# Altium footprint library 常用晶振封装PCB.PcbLib: 14 footprints
Each footprint in its own frame and in the unit in brackets; x right, y up, seen from the top. Pads: shape width x height; smd on the part's side, far side on the other; paste and mask are expansions set on the pad; w line width, h text height; cw(c..) or ccw(c..) is an arc to the next point about the centre after c.
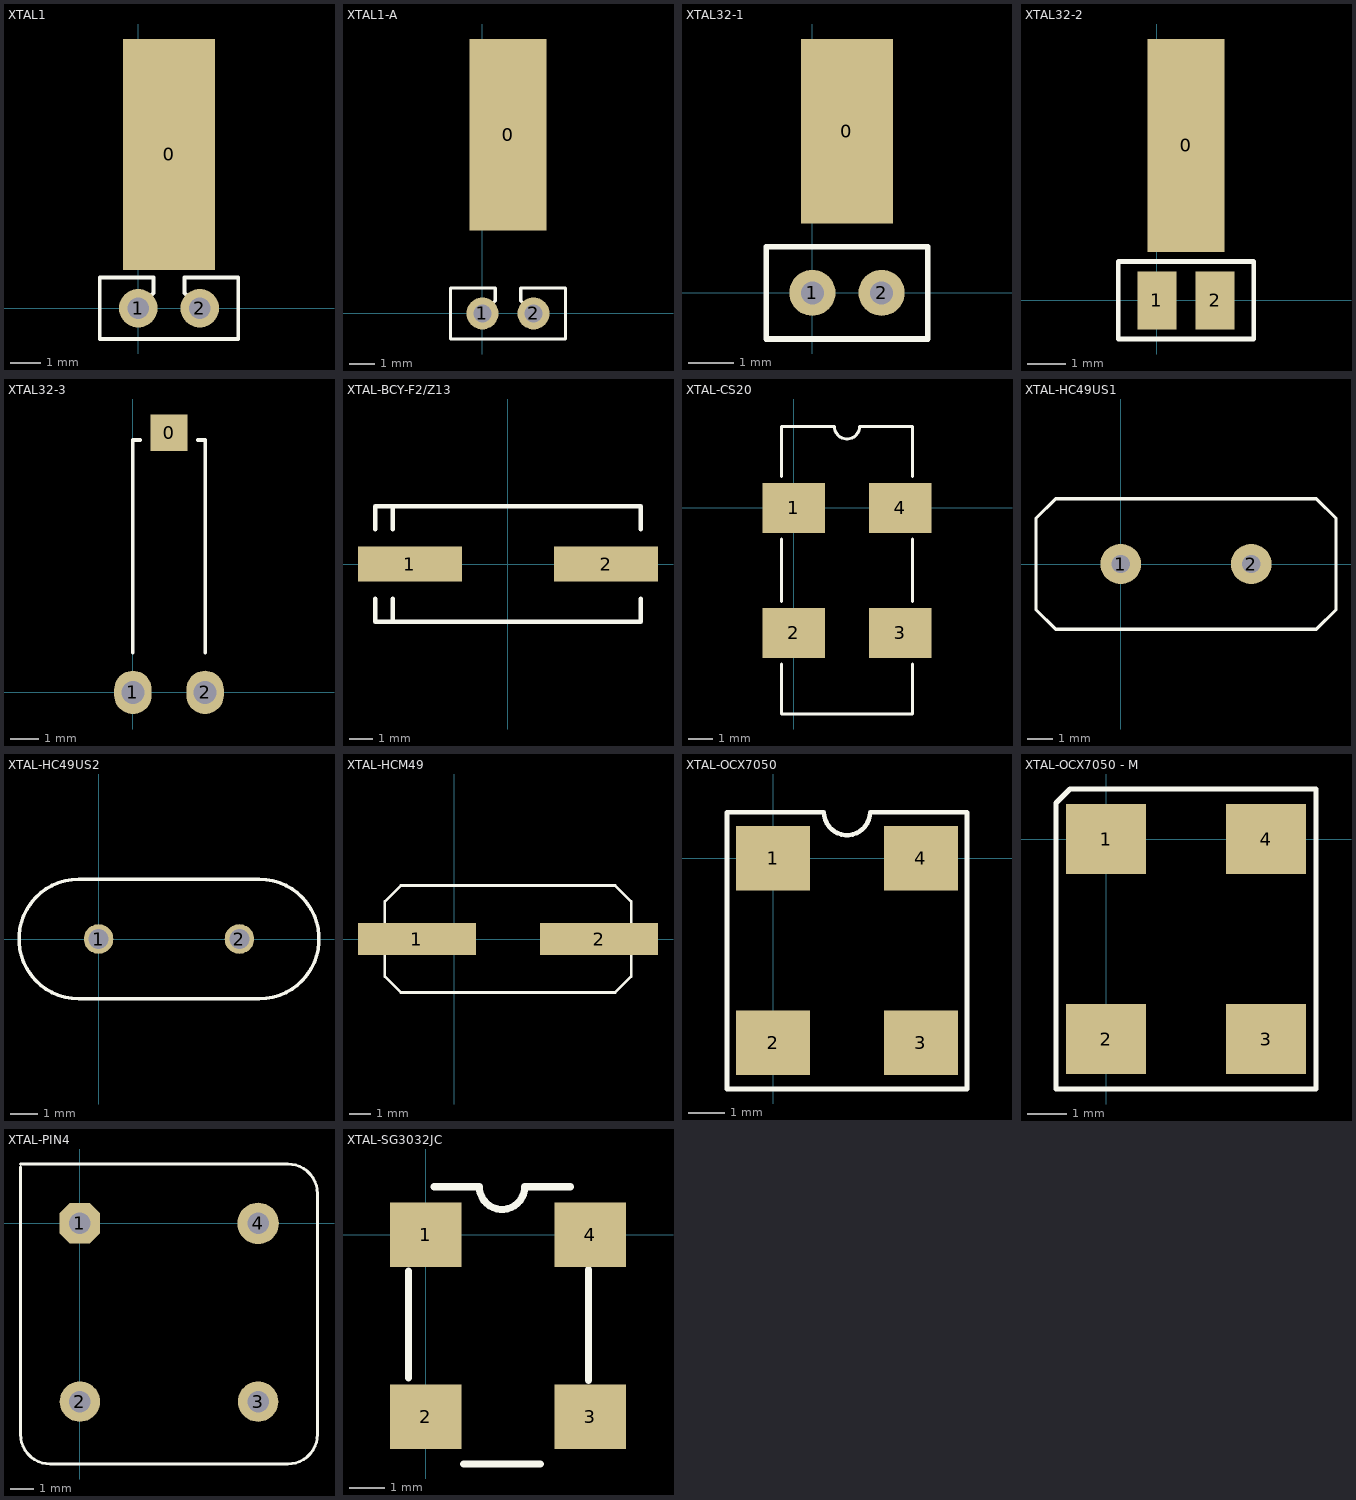
[diagram p0: the footprints below, top view; thin cyan lines are the x and y axes]

## XTAL1 [mil]
pads (3):
  rect 120x300 smd: 0(40,200)
  round 50 hole 28: 1(0,0) 2(80,0)
Top Overlay:
  lines w5: 0,0 20,20 20,40 -50,40 -50,0 -50,-40 130,-40 130,40 60,40 60,20 80,0

## XTAL1-A [mil]
pads (3):
  rect 120x300 smd: 0(40,280)
  round 50 hole 28: 1(0,0) 2(80,0)
Top Overlay:
  lines w5: 0,0 20,20 20,40 -50,40 -50,0 -50,-40 130,-40 130,40 60,40 60,20 80,0

## XTAL32-1 [mil]
pads (3):
  rect 80x160 smd: 0(30,140)
  round 40 hole 20: 1(0,0) 2(60,0)
Top Overlay:
  lines w5: -40,-40 -40,40 100,40 100,-40 -40,-40

## XTAL32-2 [mil]
pads (3):
  rect 80x220 smd: 0(30,160)
  rect 40x60 smd: 1(0,0) 2(60,0)
Top Overlay:
  lines w5: -40,-40 100,-40 100,40 -40,40 -40,-40

## XTAL32-3 [mil]
pads (3):
  rect 52x50 smd: 0(50,360)
  oval 52x60 hole 32: 1(0,0) 2(100,0)
Top Overlay:
  lines w5: 0,55 0,350 10,350 ; 90,350 100,350 100,55

## XTAL-BCY-F2/Z13 [mm] "Quartz Crystal, SM; 2 Leads; Body 11.4 x 4.8 x 5 mm (LxWxH)"
height 5
pads (2):
  rect 4.5x1.5 smd: 1(-4.25,0) 2(4.25,0)
Top Overlay:
  lines w0.2: -5.75,-1.5 -5.75,-2.5 5.75,-2.5 5.75,-1.5 ; -5.75,1.5 -5.75,2.5 5.75,2.5 5.75,1.5 ; -5,-2.5 -5,-1.5 ; -5,1.5 -5,2.5

## XTAL-CS20 [mil]
pads (4):
  rect 100x80 smd: 1(0,0) 2(0,-200) 3(170,-200) 4(170,0)
Top Overlay:
  lines w5: -20,-250 -20,-330 190,-330 190,-250 ; -20,-150 -20,-50 ; -20,50 -20,130 65,130 ccw(c85,130) 105,130 190,130 190,50 ; 190,-150 190,-50

## XTAL-HC49US1 [mil]
pads (2):
  round 62 hole 28: 1(0,0) 2(200,0)
Top Overlay:
  lines w5: -130,-70 -100,-100 300,-100 330,-70 330,70 300,100 -100,100 -130,70 -130,-70

## XTAL-HC49US2 [mil]
pads (2):
  round 42 / inner round 68 / far side round 68 hole 28: 1(0,0) 2(200,0)
Top Overlay:
  lines w5: -28,-85.01 cw(c-28,0) -28,85.01 228,85.01 cw(c228,0) 228,-85.01 -28,-85.01

## XTAL-HCM49 [mil]
pads (2):
  rect 220x60 smd: 1(-70,0) 2(270,0)
Top Overlay:
  lines w5: -130,-70 -130,70 -100,100 300,100 330,70 330,-70 300,-100 -100,-100 -130,-70
3D body: height 0, standoff 0, extent -130.02,-70.02 -130.01,-70.01
3D body: height 0, standoff 0, extent -184,-102.5 384,102.5

## XTAL-OCX7050 [mil]
pads (4):
  rect 80x70 smd: 1(0,0) 2(0,-200) 3(160,-200) 4(160,0)
Top Overlay:
  lines w5: -50,-250 -50,50 55,50 ccw(c80,50) 105,50 210,50 210,-250 -50,-250

## XTAL-OCX7050 - M [mil] "斜角标记"
pads (4):
  rect 80x70 smd: 1(0,0) 2(0,-200) 3(160,-200) 4(160,0)
Top Overlay:
  lines w5: 46,50 210,50 210,-250 -50,-250 -50,36 -36,50 55,50

## XTAL-PIN4 [mil]
pads (4):
  oct 68x68 hole 36: 1(0,0)
  round 68 hole 36: 2(0,-300) 3(300,-300)
  round 70 hole 36: 4(300,0)
Top Overlay:
  lines w5: -100,95 -100,-355 ccw(c-50,-355) -50,-405 350,-405 ccw(c350,-355) 400,-355 400,50 ccw(c350,50) 350,100 -100,100

## XTAL-SG3032JC [mm]
pads (4):
  rect 2x1.8 smd: 1(0,0) 2(0,-5.08) 3(4.6,-5.08) 4(4.6,0)
Top Overlay:
  lines w0.2: 0.229,1.346 1.499,1.346 ccw(c2.134,1.346) 2.769,1.346 4.039,1.346
  lines w0.203: -0.483,-3.988 -0.483,-1.016 ; 1.067,-6.401 3.2,-6.401 ; 4.547,-4.064 4.547,-0.965